# Altium schematic symbol library Tray2.SchLib: 80 symbols
Pins are listed as number, name and electrical type; pins without a type are passive.

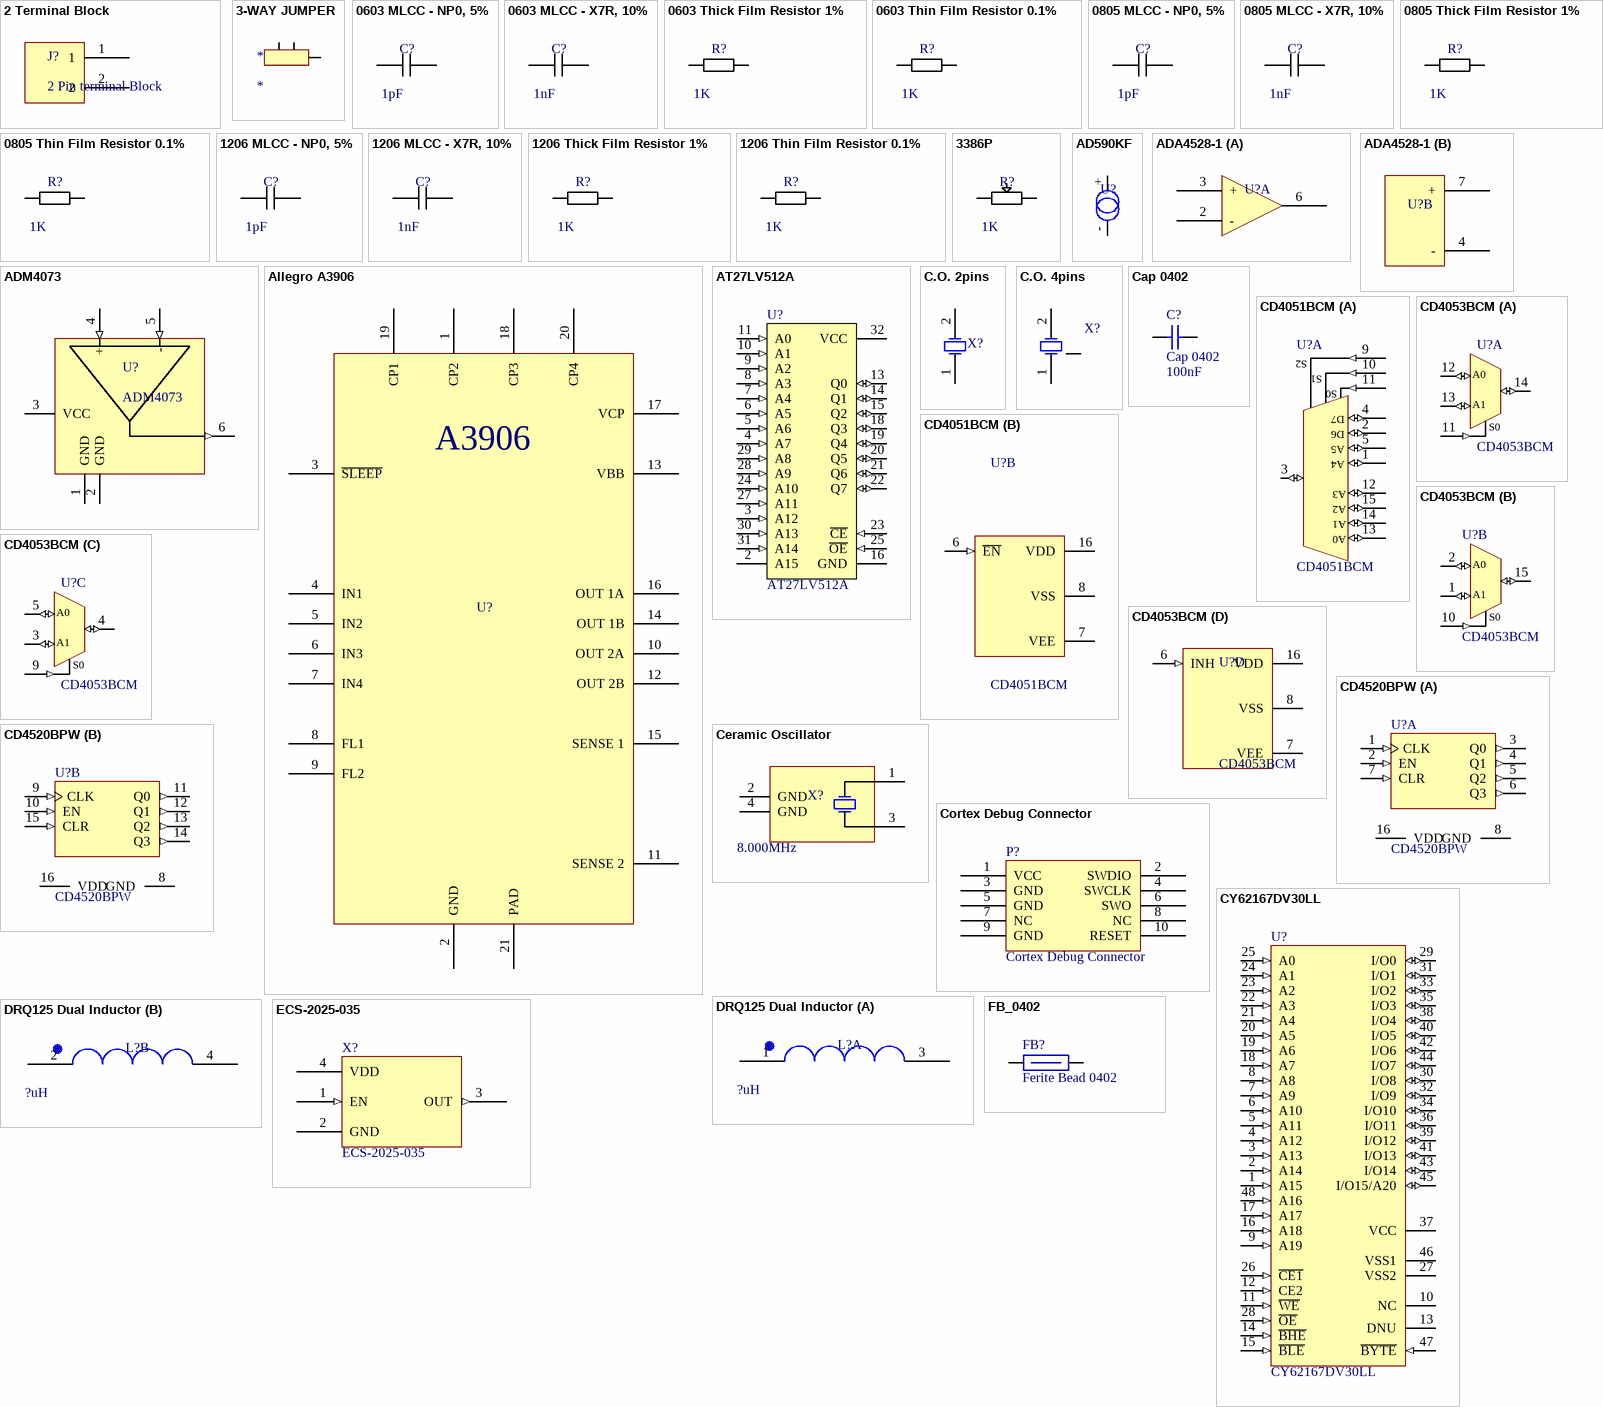
[diagram p0: symbols 2 Terminal Block to FB_0402]

## 2 Terminal Block
designator J?, comment 2 Pin terminal Block
footprint 5.05mm Terminal Block - 2
pins: 1, 2

## 3-WAY JUMPER
designator *
footprint BIDIRECTIONAL LED
pins: 1, 2, 3

## 0603 MLCC - NP0, 5%
designator C?, comment value 1pF  (hidden comment: 0603 Cap)
0603 MLCC - NP0, 5%
footprint 0603 Cap (0603 Capacitor)
pins: 1, 2

## 0603 MLCC - X7R, 10%
designator C?, comment value 1nF  (hidden comment: 0603 Cap)
0603 MLCC - X7R, 10%
footprint 0603 Cap (0603 Capacitor)
pins: 1, 2

## 0603 Thick Film Resistor 1%
designator R?, comment value 1K  (hidden comment: 0603 Resistor)
0603 Thick Film Resistor 1%
footprint 0603 Resistor
pins: 1, 2

## 0603 Thin Film Resistor 0.1%
designator R?, comment value 1K  (hidden comment: 0603 Resistor)
0603 Thin Film Resistor 0.1%
footprint 0603 Resistor
pins: 1, 2

## 0805 MLCC - NP0, 5%
designator C?, comment value 1pF  (hidden comment: 0805 Cap)
0805 MLCC - NP0, 5%
footprint 0805 Cap (0805 Capacitor)
pins: 1, 2

## 0805 MLCC - X7R, 10%
designator C?, comment value 1nF  (hidden comment: 0805 Cap)
0805 MLCC - X7R, 10%
footprint 0805 Cap (0805 Capacitor)
pins: 1, 2

## 0805 Thick Film Resistor 1%
designator R?, comment value 1K  (hidden comment: 0805 Resistor)
0805 Thick Film Resistor 1%
footprint 0805 Resistor
pins: 1, 2

## 0805 Thin Film Resistor 0.1%
designator R?, comment value 1K  (hidden comment: 0805 Resistor)
0805 Thin Film Resistor 0.1%
footprint 0805 Resistor
pins: 1, 2

## 1206 MLCC - NP0, 5%
designator C?, comment value 1pF  (hidden comment: 1206 Cap)
1206 MLCC - NP0, 5%
footprint 1206 Cap (1206 Capacitor)
pins: 1, 2

## 1206 MLCC - X7R, 10%
designator C?, comment value 1nF  (hidden comment: 1206 Cap)
1206 MLCC - X7R, 10%
footprint 1206 Cap (1206 Capacitor)
pins: 1, 2

## 1206 Thick Film Resistor 1%
designator R?, comment value 1K  (hidden comment: 1206 Resistor)
1206 Thick Film Resistor 1%
footprint 1206 Resistor
pins: 1, 2

## 1206 Thin Film Resistor 0.1%
designator R?, comment value 1K  (hidden comment: 1206 Resistor)
1206 Thin Film Resistor 0.1%
footprint 1206 Resistor
pins: 1, 2

## 3386P
designator R?  value 1K  (hidden comment: 3386P)
3386P Trim Pot
footprint 3386P (Trim Pot Bournes)
pins: 1, 2, 3

## AD590KF
designator U?  (value not drawn)
Temperature sensor IC
footprint 5.05mm Terminal Block - 2; pin to pad +>1 ->2
pins: +, -

## ADA4528-1
designator U?  (value not drawn)
Dual, High Performance Audio Operational Amplifier; ComponentLink1Description: Datasheet; ComponentLink1URL: http://www.national.com/ds/LM/LME49720.pdf
footprint SOIC8 - LME49720
part A pins: 2 -, 3 +, 6 Out
part B pins: 4 - (power), 7 + (power)

## ADM4073
designator U?
Current Sense Amplifer
footprint SOT95P285X145-6N (SOT23, 6-Leads, Body 3.0x3.0mm (max), Pitch 0.95mm, IPC Medium Density)
pins: 1 GND, 2 GND, 3 VCC, 4 + (in), 5 - (in), 6 (out)

## Allegro A3906
designator U?, comment A3906  (value not drawn)
A3906 Allegro Stepper controller; ComponentLink1Description: Datasheet; ComponentLink1URL: http://www.allegromicro.com/en/Products/Part_Numbers/3906/3906.pdf
footprint QFN20 - A3906 (QFN, 20-Leads, Body 4.2x4.2mm (max), Pitch 0.50mm, IPC Medium Density)
pins: 1 CP2, 2 GND, 3 ~{SLEEP}, 4 IN1, 5 IN2, 6 IN3, 7 IN4, 8 FL1, 9 FL2, 10 OUT 2A, 11 SENSE 2, 12 OUT 2B, 13 VBB, 14 OUT 1B, 15 SENSE 1, 16 OUT 1A, 17 VCP, 18 CP3, 19 CP1, 20 CP4, 21 PAD

## AT27LV512A
designator U?
512 Kbit (32Kb X 8) UV EPROM and OTP EPROM; Published: 24-Aug-2001; LatestRevisionDate: 06-Jun-2005; LatestRevisionNote: Stylized 3D Model Added.; DatasheetVersion: Jul-1998; PackageVersion: Jan-2003; PackageReference: PDIP28; Publisher: Altium Limited; PackageDescription: DIP; 28 Leads; Row Spacing 15.24 mm; Pitch 2.54 mm; ComponentLink1Description: Manufacturer Link; ComponentLink1URL: http://www.st.com/; ComponentLink2Description: Datasheet; ComponentLink2URL: http://www.st.com/stonline/products/literature/ds/2384/m27c256b.pdf; Supplier 1: Digi-Key; Supplier Part Number 1: AT27LV256A-70RC-ND
footprint PLCC7*9 (PLCC, 32-Leads, Body 15.1x15.1mm (max), Pitch 1.270mm, IPC Medium Density)
pins: 2 A15, 3 A12 (in), 4 A7 (in), 5 A6 (in), 6 A5 (in), 7 A4 (in), 8 A3 (in), 9 A2 (in), 10 A1 (in), 11 A0 (in), 13 Q0 (io), 14 Q1 (io), 15 Q2 (io), 16 GND (power), 18 Q3 (io), 19 Q4 (io), 20 Q5 (io), 21 Q6 (io), 22 Q7 (io), 23 ~{CE} (in), 24 A10 (in), 25 ~{OE} (in), 27 A11 (in), 28 A9 (in), 29 A8 (in), 30 A13 (in), 31 A14 (in), 32 VCC (power)

## C.O. 2pins
designator X?, comment Crystal Oscilator  (value not drawn)
Crystal Oscillator; Value: 12.000MHz; Published: 8-Jun-2000; LatestRevisionDate: 17-Jul-2002; LatestRevisionNote: Re-released for DXP Platform.; PackageReference: R38; Publisher: Altium Limited
simulation model XTAL (Spice Subcircuit)
footprint 9H T10
pins: 1 OSC1, 2 OSC2

## C.O. 4pins
designator X?, comment Crystal Oscilator  (value not drawn)
Crystal Oscillator; Value: 12.000MHz; Published: 8-Jun-2000; LatestRevisionDate: 17-Jul-2002; LatestRevisionNote: Re-released for DXP Platform.; PackageReference: R38; Publisher: Altium Limited
simulation model XTAL (Spice Subcircuit)
footprint 7M
pins: 1 OSC1, 2 OSC2, 3

## Cap 0402
designator C?  value 100nF
Capacitor; Published: 8-Jun-2000; LatestRevisionDate: 17-Jul-2002; LatestRevisionNote: Re-released for DXP Platform.; PackageReference: RAD-0.3; Publisher: Altium Limited; PackageDescription: Radial Cap, Thru-Hole; 2 Leads; 0.3 in Pin Spacing
simulation model CAP (Capacitor)
signal-integrity model Cap
footprint CAPC1005X06L (Chip Capacitor, 2-Leads, Body 1.0x0.5mm, IPC High Density)
pins: 1, 2

## CD4051BCM
designator U?
8-Channel Analog Multiplexer/Demultiplexer; Datasheet Link: http://focus.ti.com/lit/ds/symlink/cd4052b.pdf; Supplier 1: Farnell; Supplier Part Number 1: 1753421
footprint TSSOP16 (Thin Small Outline Package)
part A pins: 1 A4 (io), 2 A6 (io), 3 O (io), 4 A7 (io), 5 A5 (io), 9 S2 (in), 10 S1 (in), 11 S0 (in), 12 A3 (io), 13 A0 (io), 14 A1 (io), 15 A2 (io)
part B pins: 6 ~{EN} (in), 7 VEE (power), 8 VSS (power), 16 VDD (power)
part A text: D7; D6

## CD4053BCM
designator U?
Triple 2-Channnel Analog Multiplexer/Demutiplexer; Supplier 1: Farnell; Supplier Part Number 1: 2132284
footprint TSSOP16 (Thin Small Outline Package)
part A pins: 11 A (in), 12 A0 (io), 13 A1 (io), 14 A_out (io)
part B pins: 1 by (io), 2 bx (io), 10 B (in), 15 b_out (io)
part C pins: 3 cy (io), 4 c_out (io), 5 cx (io), 9 C (in)
part D pins: 6 INH (in), 7 VEE (power), 8 VSS (power), 16 VDD (power)
part A text: S0
part B text: S0
part C text: S0

## CD4520BPW
designator U?
Dual Binary Up-Counter; Supplier 1: Farnell; Supplier Part Number 1: 1752815
footprint TSSOP16 (Thin Small Outline Package)
pins on every part: 8 GND (power), 16 VDD (power)
part A pins: 1 CLK (in), 2 EN (in), 3 Q0 (out), 4 Q1 (out), 5 Q2 (out), 6 Q3 (out), 7 CLR (in)
part B pins: 9 CLK (in), 10 EN (in), 11 Q0 (out), 12 Q1 (out), 13 Q2 (out), 14 Q3 (out), 15 CLR (in)

## Ceramic Oscillator
designator X?  Frequency: 8.000MHz  (hidden comment: *)
footprint Crystal Oscillator 5x7mm
pins: 1 OSC1, 2 GND, 3 OSC2, 4 GND

## Cortex Debug Connector
designator P?
Mates with FFSD-05-D-12.00-01-N
footprint FTSH-105-01-L-DV-TR (http://www.samtec.com/ftppub/cpdf/FTSHMKT1.PDF)
pins: 1 VCC, 2 SWDIO, 3 GND, 4 SWCLK, 5 GND, 6 SWO, 7 NC, 8 NC, 9 GND, 10 RESET

## CY62167DV30LL
designator U?
16-Mbit (1M x 16) Static RAM; ColumnAddress: A0-A9; Publisher: Altium Limited; ComponentLink1Description: Manufacturer Link; ComponentLink2Description: Datasheet
footprint TSSOP50P2000X120-48L (TSSOP, 48-Leads, Body 12.0x18.4mm (max), Pitch 0.50mm, IPC High Density)
pins: 1 A15 (in) "System clock; Active on the positive going edge.", 2 A14 (in) "Bank select address", 3 A13 (in) "Bank select address", 4 A12 (in) "Row/column addresses are multiplexed on the same pins.", 5 A11 (in) "Row/column addresses are multiplexed on the same pins.", 6 A10 (in) "Row/column addresses are multiplexed on the same pins.", 7 A9 (in) "Row/column addresses are multiplexed on the same pins.", 8 A8 (in) "Row/column addresses are multiplexed on the same pins.", 9 A19 (in) "No connection/reserved for future use.", 10 NC "No connection/reserved for future use.", 11 ~{WE} (in) "Write enable; Enables write operation and row precharge.", 12 CE2 (in) "Clock enable; Masks system clock to freeze operation from the next clock cycle.", 13 DNU "No connection/reserved for future use.", 14 ~{BHE} (in) "Column address strobe; Latches column addresses on the positive going edge of the CLK with CAS low.", 15 ~{BLE} (in) "Row address strobe; Latches row addresses on the positive going edge of the CLK with RAS low.", 16 A18 (in) "No connection/reserved for future use.", 17 A17 (in) "No connection/reserved for future use.", 18 A7 (in) "Row/column addresses are multiplexed on the same pins.", 19 A6 (in) "Row/column addresses are multiplexed on the same pins.", 20 A5 (in) "Row/column addresses are multiplexed on the same pins.", 21 A4 (in) "Row/column addresses are multiplexed on the same pins.", 22 A3 (in) "Row/column addresses are multiplexed on the same pins.", 23 A2 (in) "Row/column addresses are multiplexed on the same pins.", 24 A1 (in) "Row/column addresses are multiplexed on the same pins.", 25 A0 (in) "Row/column addresses are multiplexed on the same pins.", 26 ~{CE1} (in) "Chip select; Disables or enables device operation.", 27 VSS2 (power) "Ground for the input buffers and the core logic.", 28 ~{OE} (in) "System clock; Active on the positive going edge.", 29 I/O0 (io) "Data inputs/outputs are multiplexed on the same pins.", 30 I/O8 (io) "Data inputs/outputs are multiplexed on the same pins.", 31 I/O1 (io) "Data inputs/outputs are multiplexed on the same pins.", 32 I/O9 (io) "Data inputs/outputs are multiplexed on the same pins.", 33 I/O2 (io) "Data inputs/outputs are multiplexed on the same pins.", 34 I/O10 (io) "Data inputs/outputs are multiplexed on the same pins.", 35 I/O3 (io) "Data inputs/outputs are multiplexed on the same pins.", 36 I/O11 (io) "Data inputs/outputs are multiplexed on the same pins.", 37 VCC (power) "Power for the input buffers and the core logic.", 38 I/O4 (io) "Data inputs/outputs are multiplexed on the same pins.", 39 I/O12 (io) "Data inputs/outputs are multiplexed on the same pins.", 40 I/O5 (io) "Data inputs/outputs are multiplexed on the same pins.", 41 I/O13 (io) "Data inputs/outputs are multiplexed on the same pins.", 42 I/O6 (io) "Data inputs/outputs are multiplexed on the same pins.", 43 I/O14 (io) "Data inputs/outputs are multiplexed on the same pins.", 44 I/O7 (io) "Data inputs/outputs are multiplexed on the same pins.", 45 I/O15/A20 (io) "Data inputs/outputs are multiplexed on the same pins.", 46 VSS1 (power) "Ground for the input buffers and the core logic.", 47 ~{BYTE} (in) "Column address strobe; Latches column addresses on the positive going edge of the CLK with CAS low.", 48 A16 (in) "Clock enable; Masks system clock to freeze operation from the next clock cycle."

## DRQ125 Dual Inductor
designator L?  value ?uH  (hidden comment: *)
footprint DRQ125
part A pins: 1 17, 3 18
part B pins: 2 17, 4 18

## ECS-2025-035
designator X?
SMD Clock Oscillator, 3.579545MHz
footprint ECS-2025 (SMD Clock Oscillator)
pins: 1 EN (in), 2 GND (power), 3 OUT (out), 4 VDD (power)

## FB_0402
designator FB?, comment Ferite Bead 0402
Ferite Bead : 0402; Published: 8-Jun-2000; LatestRevisionDate: 29-May-2009; LatestRevisionNote: IPC-7351 Footprint Added.; PackageReference: J1-0603; Publisher: Altium Limited; PackageDescription: Chip Resistor
simulation model RESISTOR (Resistor)
footprint INDC1005X06L (Chip Inductor, 2-Leads, Body 1.0x0.5mm, IPC High Density)
pins: 1, 2

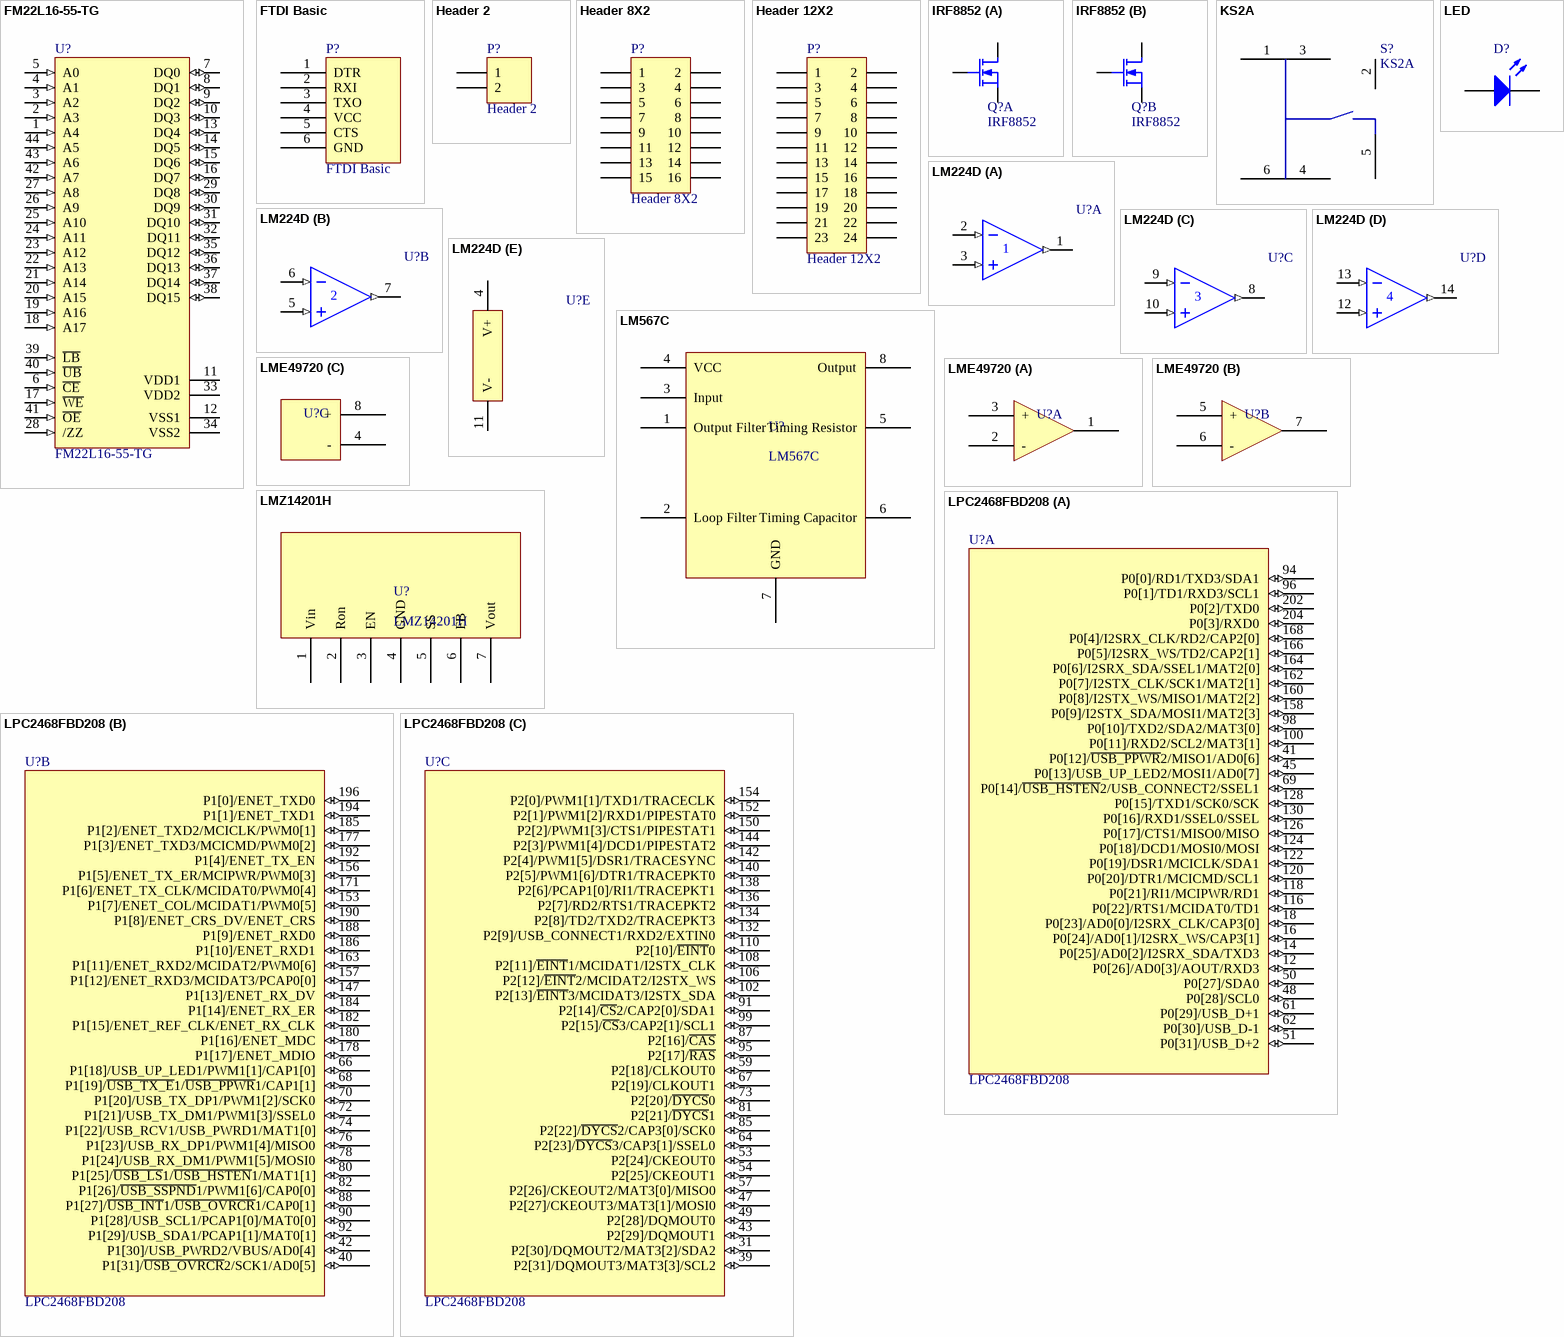
[diagram p1: symbols FM22L16-55-TG to LPC2468FBD208]

## FM22L16-55-TG
designator U?
FRAM, 2MB, 3V, 60NS, 44TSOP2; ColumnAddress: A0-A9; LatestRevisionDate: 13-Apr-2006; DatasheetVersion: rev1.1, Feb-2004; PackageReference: TSOP2-44_M; PackageDescription: 44-Pin Small Outline Package 0.8 mm Pitch; ComponentLink1Description: Manufacturer Link; ComponentLink2Description: Datasheet
footprint TSOP80P1180X120-44L (TSOP, 44-Leads, Body 18.4x10.2mm (max), Pitch 0.80mm, IPC High Density)
pins: 1 A4 (in) "Row/column addresses are multiplexed on the same pins.", 2 A3 (in) "Row/column addresses are multiplexed on the same pins.", 3 A2 (in) "Row/column addresses are multiplexed on the same pins.", 4 A1 (in) "Row/column addresses are multiplexed on the same pins.", 5 A0 (in) "Row/column addresses are multiplexed on the same pins.", 6 ~{CE} (in) "Chip select; Disables or enables device operation.", 7 DQ0 (io) "Data inputs/outputs are multiplexed on the same pins.", 8 DQ1 (io) "Data inputs/outputs are multiplexed on the same pins.", 9 DQ2 (io) "Data inputs/outputs are multiplexed on the same pins.", 10 DQ3 (io) "Data inputs/outputs are multiplexed on the same pins.", 11 VDD1 (power) "Power for the input buffers and the core logic.", 12 VSS1 (power) "Ground for the input buffers and the core logic.", 13 DQ4 (io) "Data inputs/outputs are multiplexed on the same pins.", 14 DQ5 (io) "Data inputs/outputs are multiplexed on the same pins.", 15 DQ6 (io) "Data inputs/outputs are multiplexed on the same pins.", 16 DQ7 (io) "Data inputs/outputs are multiplexed on the same pins.", 17 ~{WE} (in) "Write enable; Enables write operation and row precharge.", 18 A17 (in) "No connection/reserved for future use.", 19 A16 (in) "Clock enable; Masks system clock to freeze operation from the next clock cycle.", 20 A15 (in) "System clock; Active on the positive going edge.", 21 A14 (in) "Bank select address", 22 A13 (in) "Bank select address", 23 A12 (in) "Row/column addresses are multiplexed on the same pins.", 24 A11 (in) "Row/column addresses are multiplexed on the same pins.", 25 A10 (in) "Row/column addresses are multiplexed on the same pins.", 26 A9 (in) "Row/column addresses are multiplexed on the same pins.", 27 A8 (in) "Row/column addresses are multiplexed on the same pins.", 28 /ZZ (in) "Row address strobe; Latches row addresses on the positive going edge of the CLK with RAS low.", 29 DQ8 (io) "Data inputs/outputs are multiplexed on the same pins.", 30 DQ9 (io) "Data inputs/outputs are multiplexed on the same pins.", 31 DQ10 (io) "Data inputs/outputs are multiplexed on the same pins.", 32 DQ11 (io) "Data inputs/outputs are multiplexed on the same pins.", 33 VDD2 (power) "Power for the input buffers and the core logic.", 34 VSS2 (power) "Ground for the input buffers and the core logic.", 35 DQ12 (io) "Data inputs/outputs are multiplexed on the same pins.", 36 DQ13 (io) "Data inputs/outputs are multiplexed on the same pins.", 37 DQ14 (io) "Data inputs/outputs are multiplexed on the same pins.", 38 DQ15 (io) "Data inputs/outputs are multiplexed on the same pins.", 39 ~{LB} (in) "Data input/output mask for DQ0-DQ7", 40 ~{UB} (in) "Data input/output mask for DQ8-DQ15", 41 ~{OE} (in) "Column address strobe; Latches column addresses on the positive going edge of the CLK with CAS low.", 42 A7 (in) "Row/column addresses are multiplexed on the same pins.", 43 A6 (in) "Row/column addresses are multiplexed on the same pins.", 44 A5 (in) "Row/column addresses are multiplexed on the same pins."

## FTDI Basic
designator P?
footprint FTDI BASIC
pins: 1 DTR, 2 RXI, 3 TXO, 4 VCC, 5 CTS, 6 GND

## Header 2
designator P?
Header, 2-Pin; LatestRevisionDate: 17-Jul-2002; LatestRevisionNote: Re-released for DXP Platform.; Publisher: Altium Limited
footprint HDR1X2 (Connector; Header; 2 Position)
signal-integrity model Connector
pins: 1, 2

## Header 8X2
designator P?
Header, 8-Pin, Dual row; LatestRevisionDate: 17-Jul-2002; LatestRevisionNote: Re-released for DXP Platform.; Publisher: Altium Limited
footprint HDR2X8 (Connector; Header; 8x2 Position)
signal-integrity model Connector
pins: 1, 2, 3, 4, 5, 6, 7, 8, 9, 10, 11, 12, 13, 14, 15, 16

## Header 12X2
designator P?
Header, 12-Pin, Dual row; LatestRevisionDate: 17-Jul-2002; LatestRevisionNote: Re-released for DXP Platform.; Publisher: Altium Limited
footprint HDR2X12 (Connector; Header; 12x2 Position)
signal-integrity model Connector
pins: 1, 2, 3, 4, 5, 6, 7, 8, 9, 10, 11, 12, 13, 14, 15, 16, 17, 18, 19, 20, 21, 22, 23, 24

## IRF8852
designator Q?
N-Channel MOSFET; Published: 8-Jun-2000; LatestRevisionDate: 17-Jul-2002; LatestRevisionNote: Re-released for DXP Platform.; PackageVersion: 1995/1996; PackageReference: E3; Publisher: Altium Limited; PackageDescription: TO, Flat Index; 3 In-Line, Axial Leads; Body Dia. 4.6mm; Lead Dia. 0.5 mm (max)
footprint TSSOP8
part A pins: D1 D, G1 G, S1 S
part B pins: D2 D, G2 G, S2 S

## KS2A
designator S?
Tact Switch
footprint K5A2
pins: 1 (power), 2 (power), 3 (power), 4 (power), 5, 6 (power)

## LED
designator D?, comment LED - ASMT-Rx45  (value not drawn)
Typical INFRARED GaAs LED 0603; Published: 8-Jun-2000; LatestRevisionDate: 08-Jul-2005; LatestRevisionNote: Mech Layer 1 removed.; PackageReference: LED-0; Publisher: Altium Limited; PackageDescription: LED; 2 Leads
simulation model LED0 (Diode)
footprint ASMT-Rx45
pins: 1 A, 2 K

## LM224D
designator U?
Quadruple Operational Amplifier; Published: 15-Apr-2002; LatestRevisionDate: 13-Apr-2006; LatestRevisionNote: IPC-7351 Footprint Added.; DatasheetVersion: Jan-1989; PackageVersion: Jan-1998; PackageReference: D014; Publisher: Altium Limited; PackageDescription: 14-Pin Small Outline Integrated Circuit 1.27 mm Pitch; Code_IPC: SOIC127P600-14; ComponentLink1Description: Manufacturer Link; ComponentLink1URL: http://www.ti.com/; ComponentLink2Description: Datasheet; ComponentLink2URL: http://www-s.ti.com/sc/ds/lm224.pdf
footprint D014_N (SOIC, 14-Leads, Body 8.7x3.9mm, Pitch 1.27mm, IPC Medium Density)
part A pins: 1 OUT (out), 2 IN- (in), 3 IN+ (in)
part B pins: 5 IN+ (in), 6 IN- (in), 7 OUT (out)
part C pins: 8 OUT (out), 9 IN- (in), 10 IN+ (in)
part D pins: 12 IN+ (in), 13 IN- (in), 14 OUT (out)
part E pins: 4 V+ (power), 11 V- (power)

## LM567C
designator U?
Tone Decoder; ComponentLink1URL: http://www.national.com/mpf/LM/LM567C.html; ComponentLink1Description: Component Information
footprint SOIC8 - LM567CM (SOIC, 8-Leads, Body 5.0x4.0mm (max), Pitch 1.27mm, IPC Medium Density)
pins: 1 Output Filter, 2 Loop Filter, 3 Input, 4 VCC (power), 5 Timing Resistor, 6 Timing Capacitor, 7 GND (power), 8 Output

## LME49720
designator U?  (value not drawn)
Dual, High Performance Audio Operational Amplifier; ComponentLink1Description: Datasheet; ComponentLink1URL: http://www.national.com/ds/LM/LME49720.pdf
footprint SOIC8 - LME49720
part A pins: 1 Out, 2 -, 3 +
part B pins: 5 +, 6 -, 7 Out
part C pins: 4 - (power), 8 + (power)

## LMZ14201H
designator U?
1A SIMPLE SWITCHER® Power Module for High Output  Voltage
footprint TO-PMOD-7
pins: 1 Vin, 2 Ron, 3 EN, 4 GND, 5 SS, 6 FB, 7 Vout

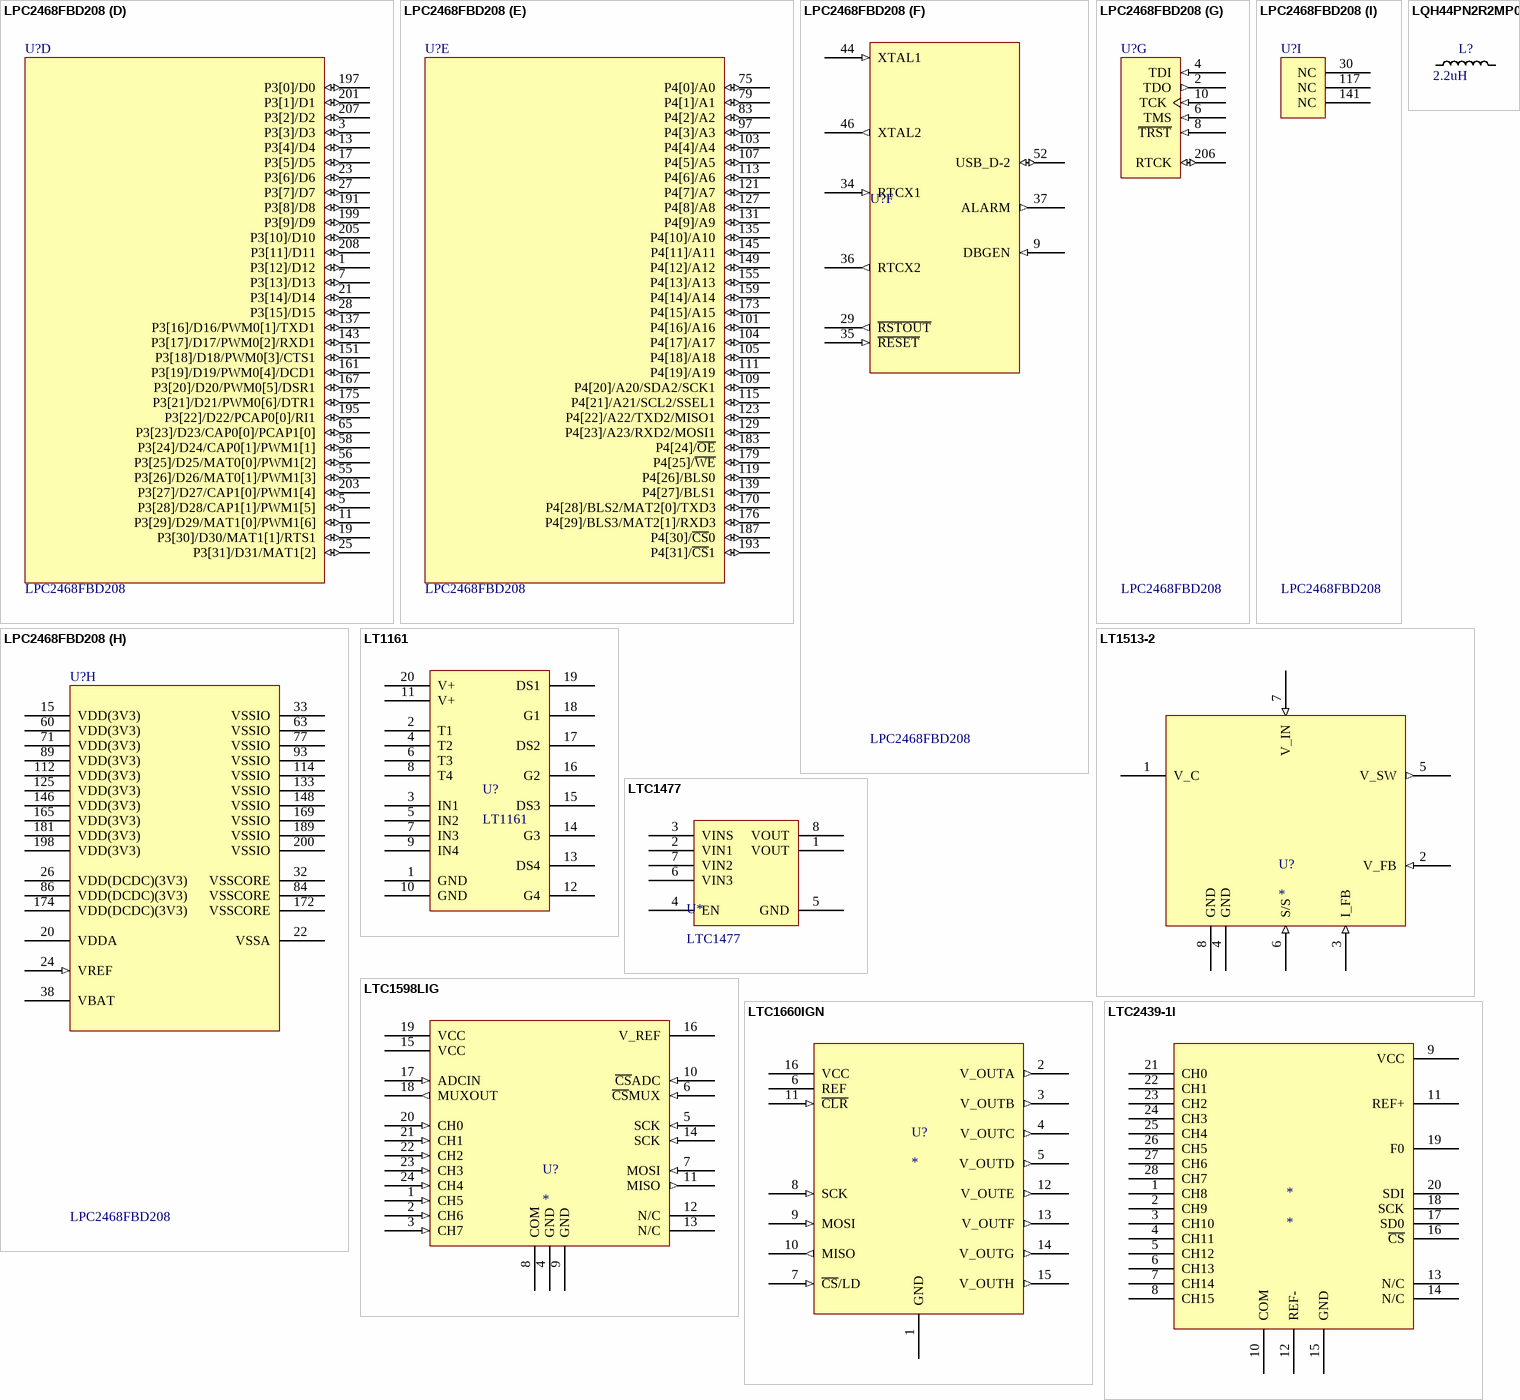
[diagram p2: symbols LPC2468FBD208 to LTC2439-1l]

## LPC2468FBD208
designator U?
ARM7 16/32-Bit Microcontroller, 512KB Flash, 98KB RAM, 208-Lead LQFP; Code_IEC: 136E30; Published: 17-Aug-2007; DatasheetVersion: rev.01, Jul-2007; PackageVersion: Feb-2003; PackageReference: SOT459-1; Publisher: Altium Limited; PackageDescription: 208-Pin Plastic Low Profile Quad Flat Pack, LQFP208; Code_JEDEC: MS-026; ComponentLink1Description: Manufacturer Link; ComponentLink1URL: http://www.nxp.com/; ComponentLink2Description: Datasheet; ComponentLink2URL: http://www.standardics.nxp.com/products/lpc2000/datasheet/lpc2468.pdf
footprint TSQFP50P3000X3000X160-208L (TSQFP, 208-Leads, Body 30.1x30.1mm (max), Pitch 0.50mm, IPC High Density)
part A pins: 12 P0[26]/AD0[3]/AOUT/RXD3 (io), 14 P0[25]/AD0[2]/I2SRX_SDA/TXD3 (io), 16 P0[24]/AD0[1]/I2SRX_WS/CAP3[1] (io), 18 P0[23]/AD0[0]/I2SRX_CLK/CAP3[0] (io), 41 P0[12]/~{USB_PPWR}2/MISO1/AD0[6] (io), 45 P0[13]/USB_UP_LED2/MOSI1/AD0[7] (io), 48 P0[28]/SCL0 (io), 50 P0[27]/SDA0 (io), 51 P0[31]/USB_D+2 (io), 61 P0[29]/USB_D+1 (io), 62 P0[30]/USB_D-1 (io), 69 P0[14]/~{USB_HSTEN}2/USB_CONNECT2/SSEL1 (io), 94 P0[0]/RD1/TXD3/SDA1 (io), 96 P0[1]/TD1/RXD3/SCL1 (io), 98 P0[10]/TXD2/SDA2/MAT3[0] (io), 100 P0[11]/RXD2/SCL2/MAT3[1] (io), 116 P0[22]/RTS1/MCIDAT0/TD1 (io), 118 P0[21]/RI1/MCIPWR/RD1 (io), 120 P0[20]/DTR1/MCICMD/SCL1 (io), 122 P0[19]/DSR1/MCICLK/SDA1 (io), 124 P0[18]/DCD1/MOSI0/MOSI (io), 126 P0[17]/CTS1/MISO0/MISO (io), 128 P0[15]/TXD1/SCK0/SCK (io), 130 P0[16]/RXD1/SSEL0/SSEL (io), 158 P0[9]/I2STX_SDA/MOSI1/MAT2[3] (io), 160 P0[8]/I2STX_WS/MISO1/MAT2[2] (io), 162 P0[7]/I2STX_CLK/SCK1/MAT2[1] (io), 164 P0[6]/I2SRX_SDA/SSEL1/MAT2[0] (io), 166 P0[5]/I2SRX_WS/TD2/CAP2[1] (io), 168 P0[4]/I2SRX_CLK/RD2/CAP2[0] (io), 202 P0[2]/TXD0 (io), 204 P0[3]/RXD0 (io)
part B pins: 40 P1[31]/~{USB_OVRCR}2/SCK1/AD0[5] (io), 42 P1[30]/USB_PWRD2/VBUS/AD0[4] (io), 66 P1[18]/USB_UP_LED1/PWM1[1]/CAP1[0] (io), 68 P1[19]/~{USB_TX_E}1/~{USB_PPWR}1/CAP1[1] (io), 70 P1[20]/USB_TX_DP1/PWM1[2]/SCK0 (io), 72 P1[21]/USB_TX_DM1/PWM1[3]/SSEL0 (io), 74 P1[22]/USB_RCV1/USB_PWRD1/MAT1[0] (io), 76 P1[23]/USB_RX_DP1/PWM1[4]/MISO0 (io), 78 P1[24]/USB_RX_DM1/PWM1[5]/MOSI0 (io), 80 P1[25]/~{USB_LS}1/~{USB_HSTEN}1/MAT1[1] (io), 82 P1[26]/~{USB_SSPND}1/PWM1[6]/CAP0[0] (io), 88 P1[27]/~{USB_INT}1/~{USB_OVRCR}1/CAP0[1] (io), 90 P1[28]/USB_SCL1/PCAP1[0]/MAT0[0] (io), 92 P1[29]/USB_SDA1/PCAP1[1]/MAT0[1] (io), 147 P1[13]/ENET_RX_DV (io), 153 P1[7]/ENET_COL/MCIDAT1/PWM0[5] (io), 156 P1[5]/ENET_TX_ER/MCIPWR/PWM0[3] (io), 157 P1[12]/ENET_RXD3/MCIDAT3/PCAP0[0] (io), 163 P1[11]/ENET_RXD2/MCIDAT2/PWM0[6] (io), 171 P1[6]/ENET_TX_CLK/MCIDAT0/PWM0[4] (io), 177 P1[3]/ENET_TXD3/MCICMD/PWM0[2] (io), 178 P1[17]/ENET_MDIO (io), 180 P1[16]/ENET_MDC (io), 182 P1[15]/ENET_REF_CLK/ENET_RX_CLK (io), 184 P1[14]/ENET_RX_ER (io), 185 P1[2]/ENET_TXD2/MCICLK/PWM0[1] (io), 186 P1[10]/ENET_RXD1 (io), 188 P1[9]/ENET_RXD0 (io), 190 P1[8]/ENET_CRS_DV/ENET_CRS (io), 192 P1[4]/ENET_TX_EN (io), 194 P1[1]/ENET_TXD1 (io), 196 P1[0]/ENET_TXD0 (io)
part C pins: 31 P2[30]/DQMOUT2/MAT3[2]/SDA2 (io), 39 P2[31]/DQMOUT3/MAT3[3]/SCL2 (io), 43 P2[29]/DQMOUT1 (io), 47 P2[27]/CKEOUT3/MAT3[1]/MOSI0 (io), 49 P2[28]/DQMOUT0 (io), 53 P2[24]/CKEOUT0 (io), 54 P2[25]/CKEOUT1 (io), 57 P2[26]/CKEOUT2/MAT3[0]/MISO0 (io), 59 P2[18]/CLKOUT0 (io), 64 P2[23]/~{DYCS}3/CAP3[1]/SSEL0 (io), 67 P2[19]/CLKOUT1 (io), 73 P2[20]/~{DYCS}0 (io), 81 P2[21]/~{DYCS}1 (io), 85 P2[22]/~{DYCS}2/CAP3[0]/SCK0 (io), 87 P2[16]/~{CAS} (io), 91 P2[14]/~{CS}2/CAP2[0]/SDA1 (io), 95 P2[17]/~{RAS} (io), 99 P2[15]/~{CS}3/CAP2[1]/SCL1 (io), 102 P2[13]/~{EINT}3/MCIDAT3/I2STX_SDA (io), 106 P2[12]/~{EINT}2/MCIDAT2/I2STX_WS (io), 108 P2[11]/~{EINT}1/MCIDAT1/I2STX_CLK (io), 110 P2[10]/~{EINT}0 (io), 132 P2[9]/USB_CONNECT1/RXD2/EXTIN0 (io), 134 P2[8]/TD2/TXD2/TRACEPKT3 (io), 136 P2[7]/RD2/RTS1/TRACEPKT2 (io), 138 P2[6]/PCAP1[0]/RI1/TRACEPKT1 (io), 140 P2[5]/PWM1[6]/DTR1/TRACEPKT0 (io), 142 P2[4]/PWM1[5]/DSR1/TRACESYNC (io), 144 P2[3]/PWM1[4]/DCD1/PIPESTAT2 (io), 150 P2[2]/PWM1[3]/CTS1/PIPESTAT1 (io), 152 P2[1]/PWM1[2]/RXD1/PIPESTAT0 (io), 154 P2[0]/PWM1[1]/TXD1/TRACECLK (io)
part D pins: 1 P3[12]/D12 (io), 3 P3[3]/D3 (io), 5 P3[28]/D28/CAP1[1]/PWM1[5] (io), 7 P3[13]/D13 (io), 11 P3[29]/D29/MAT1[0]/PWM1[6] (io), 13 P3[4]/D4 (io), 17 P3[5]/D5 (io), 19 P3[30]/D30/MAT1[1]/RTS1 (io), 21 P3[14]/D14 (io), 23 P3[6]/D6 (io), 25 P3[31]/D31/MAT1[2] (io), 27 P3[7]/D7 (io), 28 P3[15]/D15 (io), 55 P3[26]/D26/MAT0[1]/PWM1[3] (io), 56 P3[25]/D25/MAT0[0]/PWM1[2] (io), 58 P3[24]/D24/CAP0[1]/PWM1[1] (io), 65 P3[23]/D23/CAP0[0]/PCAP1[0] (io), 137 P3[16]/D16/PWM0[1]/TXD1 (io), 143 P3[17]/D17/PWM0[2]/RXD1 (io), 151 P3[18]/D18/PWM0[3]/CTS1 (io), 161 P3[19]/D19/PWM0[4]/DCD1 (io), 167 P3[20]/D20/PWM0[5]/DSR1 (io), 175 P3[21]/D21/PWM0[6]/DTR1 (io), 191 P3[8]/D8 (io), 195 P3[22]/D22/PCAP0[0]/RI1 (io), 197 P3[0]/D0 (io), 199 P3[9]/D9 (io), 201 P3[1]/D1 (io), 203 P3[27]/D27/CAP1[0]/PWM1[4] (io), 205 P3[10]/D10 (io), 207 P3[2]/D2 (io), 208 P3[11]/D11 (io)
part E pins: 75 P4[0]/A0 (io), 79 P4[1]/A1 (io), 83 P4[2]/A2 (io), 97 P4[3]/A3 (io), 101 P4[16]/A16 (io), 103 P4[4]/A4 (io), 104 P4[17]/A17 (io), 105 P4[18]/A18 (io), 107 P4[5]/A5 (io), 109 P4[20]/A20/SDA2/SCK1 (io), 111 P4[19]/A19 (io), 113 P4[6]/A6 (io), 115 P4[21]/A21/SCL2/SSEL1 (io), 119 P4[26]/BLS0 (io), 121 P4[7]/A7 (io), 123 P4[22]/A22/TXD2/MISO1 (io), 127 P4[8]/A8 (io), 129 P4[23]/A23/RXD2/MOSI1 (io), 131 P4[9]/A9 (io), 135 P4[10]/A10 (io), 139 P4[27]/BLS1 (io), 145 P4[11]/A11 (io), 149 P4[12]/A12 (io), 155 P4[13]/A13 (io), 159 P4[14]/A14 (io), 170 P4[28]/BLS2/MAT2[0]/TXD3 (io), 173 P4[15]/A15 (io), 176 P4[29]/BLS3/MAT2[1]/RXD3 (io), 179 P4[25]/~{WE} (io), 183 P4[24]/~{OE} (io), 187 P4[30]/~{CS}0 (io), 193 P4[31]/~{CS}1 (io)
part F pins: 9 DBGEN (in), 29 ~{RSTOUT} (out), 34 RTCX1 (in), 35 ~{RESET} (in), 36 RTCX2 (out), 37 ALARM (out), 44 XTAL1 (in), 46 XTAL2 (out), 52 USB_D-2 (io)
part G pins: 2 TDO (out), 4 TDI (in), 6 TMS (in), 8 ~{TRST} (in), 10 TCK (in), 206 RTCK (io)
part H pins: 15 VDD(3V3) (power), 20 VDDA (power), 22 VSSA (power), 24 VREF (in), 26 VDD(DCDC)(3V3) (power), 32 VSSCORE (power), 33 VSSIO (power), 38 VBAT (power), 60 VDD(3V3) (power), 63 VSSIO (power), 71 VDD(3V3) (power), 77 VSSIO (power), 84 VSSCORE (power), 86 VDD(DCDC)(3V3) (power), 89 VDD(3V3) (power), 93 VSSIO (power), 112 VDD(3V3) (power), 114 VSSIO (power), 125 VDD(3V3) (power), 133 VSSIO (power), 146 VDD(3V3) (power), 148 VSSIO (power), 165 VDD(3V3) (power), 169 VSSIO (power), 172 VSSCORE (power), 174 VDD(DCDC)(3V3) (power), 181 VDD(3V3) (power), 189 VSSIO (power), 198 VDD(3V3) (power), 200 VSSIO (power)
part I pins: 30 NC, 117 NC, 141 NC

## LQH44PN2R2MP0
designator L?  value 2.2uH  (hidden comment: LQH44PN2R2MP0)
Inductor 4x4mm 2.2uH; ComponentLink1Description: Datasheet; ComponentLink1URL: http://search.murata.co.jp/Ceramy/image/img/PDF/ENG/L0075S0103LQH44P.pdf
footprint INDP4037X16N (Precision Wire Wound Inductor, 2-Leads, Body 4.0x3.7mm, IPC Medium Density)
pins: 1, 2

## LT1161
designator U?
Quad Protected High-Side  MOSFET Driver
footprint SOIC20 (SOIC, 20-Leads, Body 13.0x7.6mm (max), Pitch 1.27mm, IPC Medium Density)
pins: 1 GND, 2 T1, 3 IN1, 4 T2, 5 IN2, 6 T3, 7 IN3, 8 T4, 9 IN4, 10 GND, 11 V+, 12 G4, 13 DS4, 14 G3, 15 DS3, 16 G2, 17 DS2, 18 G1, 19 DS1, 20 V+

## LT1513-2
designator U?
footprint TO152P1396X238-8N (D2-PAK, 8-Pads, Body 9.4x10.5mm (max), IPC Medium Density)
pins: 1 V_C, 2 V_FB (in), 3 I_FB (in), 4 GND, 5 V_SW (out), 6 S/S (in), 7 V_IN (in), 8 GND

## LTC1477
designator U*
Single Protected High Side Switches
footprint SO8
pins: 1 VOUT, 2 VIN1, 3 VINS, 4 EN, 5 GND, 6 VIN3, 7 VIN2, 8 VOUT

## LTC1598LIG
designator U?
footprint SOP65P780-24N (SOP, 24-Leads, Body 8.2x5.3mm, Pitch 0.65mm, IPC Medium Density)
pins: 1 CH5 (in), 2 CH6 (in), 3 CH7 (in), 4 GND, 5 SCK (in), 6 ~{CS}MUX (in), 7 MOSI (in), 8 COM, 9 GND, 10 ~{CS}ADC (in), 11 MISO (out), 12 N/C, 13 N/C, 14 SCK (in), 15 VCC, 16 V_REF, 17 ADCIN (in), 18 MUXOUT (out), 19 VCC, 20 CH0 (in), 21 CH1 (in), 22 CH2 (in), 23 CH3 (in), 24 CH4 (in)

## LTC1660IGN
designator U?
footprint SOP635P600-16N (SOP, 16-Leads, Body 4.9x3.9mm, Pitch 0.635mm, IPC Medium Density)
pins: 1 GND, 2 V_OUTA (out), 3 V_OUTB (out), 4 V_OUTC (out), 5 V_OUTD (out), 6 REF, 7 ~{CS}/LD (in), 8 SCK (in), 9 MOSI (in), 10 MISO (out), 11 ~{CLR} (in), 12 V_OUTE (out), 13 V_OUTF (out), 14 V_OUTG (out), 15 V_OUTH (out), 16 VCC

## LTC2439-1l
designator *
pins: 1 CH8, 2 CH9, 3 CH10, 4 CH11, 5 CH12, 6 CH13, 7 CH14, 8 CH15, 9 VCC, 10 COM, 11 REF+, 12 REF-, 13 N/C, 14 N/C, 15 GND, 16 ~{CS}, 17 SD0, 18 SCK, 19 F0, 20 SDI, 21 CH0, 22 CH1, 23 CH2, 24 CH3, 25 CH4, 26 CH5, 27 CH6, 28 CH7

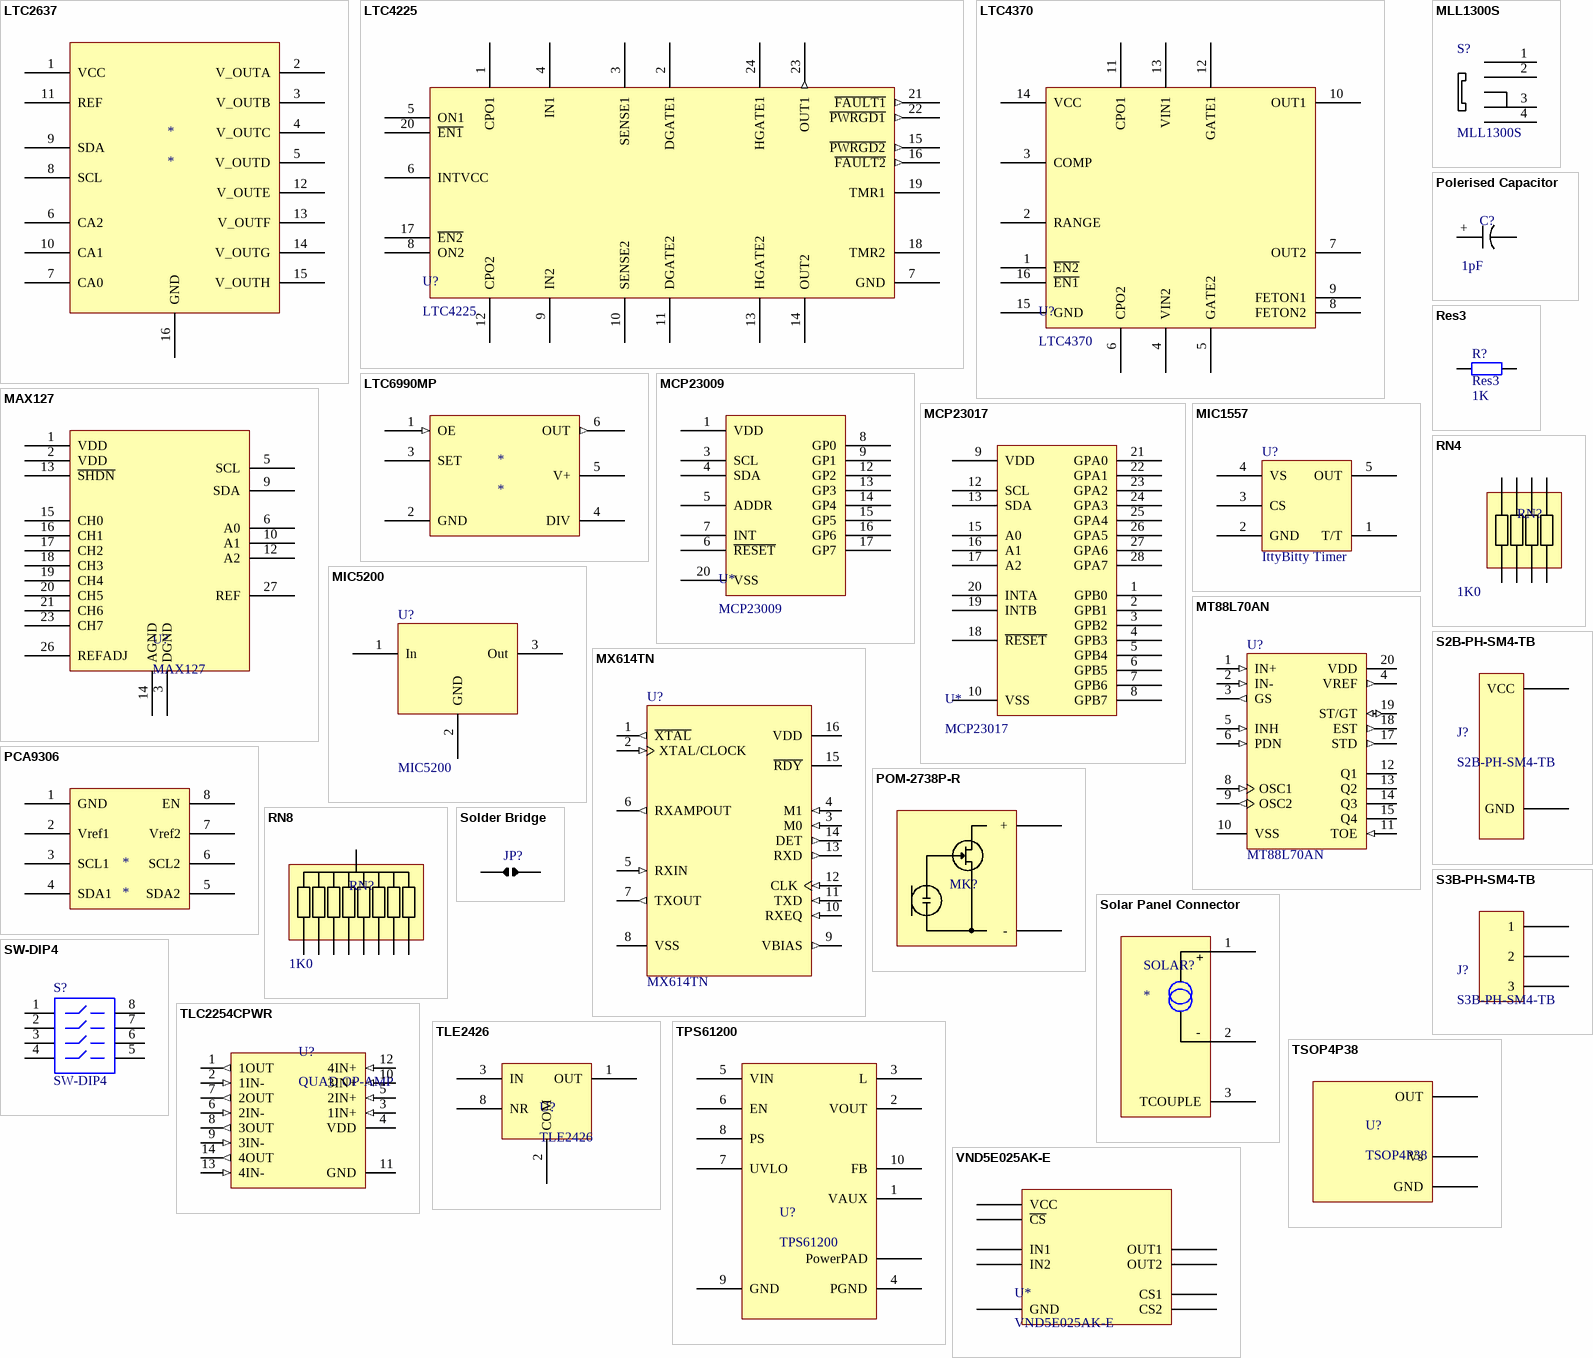
[diagram p3: symbols LTC2637 to VND5E025AK-E]

## LTC2637
designator *
footprint LTC2637
pins: 1 VCC, 2 V_OUTA, 3 V_OUTB, 4 V_OUTC, 5 V_OUTD, 6 CA2, 7 CA0, 8 SCL, 9 SDA, 10 CA1, 11 REF, 12 V_OUTE, 13 V_OUTF, 14 V_OUTG, 15 V_OUTH, 16 GND

## LTC4225
designator U?
Dual Ideal Diode and  Hot Swap Controller
footprint SSOP24
pins: 1 CPO1, 2 DGATE1, 3 SENSE1, 4 IN1, 5 ON1, 6 INTVCC, 7 GND, 8 ON2, 9 IN2, 10 SENSE2, 11 DGATE2, 12 CPO2, 13 HGATE2, 14 OUT2, 15 ~{PWRGD2} (out), 16 ~{FAULT2} (out), 17 ~{EN2}, 18 TMR2, 19 TMR1, 20 ~{EN1}, 21 ~{FAULT1} (out), 22 ~{PWRGD1} (out), 23 OUT1 (out), 24 HGATE1

## LTC4370
designator U?
Two-Supply Diode-OR Current Balancing Controller
footprint MSOP16 (TSSOP, 16-Leads, Body 4.1x3.1mm (max), Pitch 0.50mm, IPC Medium Density)
pins: 1 ~{EN2}, 2 RANGE, 3 COMP, 4 VIN2, 5 GATE2, 6 CPO2, 7 OUT2, 8 FETON2, 9 FETON1, 10 OUT1, 11 CPO1, 12 GATE1, 13 VIN1, 14 VCC, 15 GND, 16 ~{EN1}

## LTC6990MP
designator *
pins: 1 OE (in), 2 GND, 3 SET, 4 DIV, 5 V+, 6 OUT (out)

## MAX127
designator U?
8 Channel, 12 bit, I2C DAS
footprint SSOP28 - MAX127 (SOP, 28-Leads, Body 10.3x5.4mm (max), Pitch 0.65mm, IPC Medium Density)
pins: 1 VDD, 2 VDD, 3 DGND, 5 SCL, 6 A0, 9 SDA, 10 A1, 12 A2, 13 ~{SHDN}, 14 AGND, 15 CH0, 16 CH1, 17 CH2, 18 CH3, 19 CH4, 20 CH5, 21 CH6, 23 CH7, 26 REFADJ, 27 REF

## MCP23009
designator U*
8-Bit I/O Expander with Open-Drain Outputs
footprint SSOP20
pins: 1 VDD, 3 SCL, 4 SDA, 5 ADDR, 6 ~{RESET}, 7 INT, 8 GP0, 9 GP1, 12 GP2, 13 GP3, 14 GP4, 15 GP5, 16 GP6, 17 GP7, 20 VSS

## MCP23017
designator U*
16-Bit I/O Expander with Serial Interface
footprint SSOP28
pins: 1 GPB0, 2 GPB1, 3 GPB2, 4 GPB3, 5 GPB4, 6 GPB5, 7 GPB6, 8 GPB7, 9 VDD, 10 VSS, 12 SCL, 13 SDA, 15 A0, 16 A1, 17 A2, 18 ~{RESET}, 19 INTB, 20 INTA, 21 GPA0, 22 GPA1, 23 GPA2, 24 GPA3, 25 GPA4, 26 GPA5, 27 GPA6, 28 GPA7

## MIC1557
designator U?, comment IttyBitty Timer
Miniature Astable Timer Chip; Supplier: Farnell; Supplier Part Number: 1517241
footprint SOT23-5 (SOT23, 5-Leads, Body 3.0x3.0mm (max), Pitch 0.95mm, IPC Medium Density)
pins: 1 T/T, 2 GND, 3 CS, 4 VS, 5 OUT

## MIC5200
designator U?
footprint SOT230P710X170-4L (SOT223, 4-Leads, Body 6.7x7.5mm (max), Pitch 2.30mm, IPC High Density)
pins: 1 In (power), 2 GND (power), 3 Out (power)

## MLL1300S
designator S?
Slide switch SP3T switch
footprint MILL1300S
pins: 1, 2, 3, 4

## MT88L70AN
designator U?
3 Volt Integrated DTMF Receiver; Published: 8-Jun-2000; LatestRevisionDate: 13-Apr-2006; LatestRevisionNote: IPC-7351 Footprint Added.; DatasheetVersion: Issue 4 March 1997; PackageVersion: 1997; PackageReference: SOIC18; Publisher: Altium Limited; PackageDescription: 18-Pin Small Outline Integrated Circuit 1.27 mm Pitch; Code_JEDEC: MS-013-AB; ComponentLink1Description: Manufacturer Link; ComponentLink1URL: http://products.zarlink.com; ComponentLink2Description: Datasheet; ComponentLink2URL: http://assets.zarlink.com/DS/zarlink_MT88L70_MAY_05.pdf; Supplier 1: Allied; Supplier Part Number 1: 090-SPEC
footprint TSSOP20 (Thin Small Outline Package)
pins: 1 IN+ (in), 2 IN- (in), 3 GS (out), 4 VREF (out), 5 INH (in), 6 PDN (in), 8 OSC1 (in), 9 OSC2 (out), 10 VSS (power), 11 TOE (in), 12 Q1 (hiz), 13 Q2 (hiz), 14 Q3 (hiz), 15 Q4 (hiz), 17 STD (out), 18 EST (out), 19 ST/GT (io), 20 VDD (power)

## MX614TN
designator U?
Bell 202 Compatible Modem
footprint SOIC16 (SOIC, 16-Leads, Body 10.5x7.6mm (max), Pitch 1.27mm, IPC Medium Density)
pins: 1 ~{XTAL} (out), 2 XTAL/CLOCK (in), 3 M0 (in), 4 M1 (in), 5 RXIN (in), 6 RXAMPOUT (out), 7 TXOUT (out), 8 VSS (power), 9 VBIAS (out), 10 RXEQ (in), 11 TXD (in), 12 CLK (in), 13 RXD (out), 14 DET (out), 15 ~{RDY}, 16 VDD (power)

## PCA9306
designator *
footprint TSSOP50P310X90-8N (TSSOP, 8-Leads, Body 2.1x2.4mm (max), Pitch 0.50mm, IPC Medium Density)
pins: 1 GND, 2 Vref1, 3 SCL1, 4 SDA1, 5 SDA2, 6 SCL2, 7 Vref2, 8 EN

## Polerised Capacitor
designator C?, comment value 1pF  (hidden comment: Cap)
Polerised Capacitor
footprint 0603 Cap (0603 Capacitor)
pins: + 1, - 2

## POM-2738P-R
designator MK?  (value not drawn)
Electret Microphone Capsule
footprint POM-2738P-R
pins: 1 +, 2 -

## Res3
designator R?  value 1K
Resistor; Published: 8-Jun-2000; LatestRevisionDate: 29-May-2009; LatestRevisionNote: IPC-7351 Footprint Added.; PackageReference: J1-0603; Publisher: Altium Limited; PackageDescription: Chip Resistor
simulation model RESISTOR (Resistor)
footprint RESC1005X06L (Chip Resistor, 2-Leads, Body 1.0x0.5mm, IPC High Density)
pins: 1, 2

## RN4
designator RN?  value 1K0  (hidden comment: *)
footprint ACAS_0612_AC (Resistor network)
pins: 1, 2, 3, 4, 5, 6, 7, 8

## RN8
designator RN?  value 1K0  (hidden comment: *)
pins: 1, 1, 1, 1, 1, 1, 1, 1, 1

## S2B-PH-SM4-TB
designator J?
JST connector
footprint S2B-PH-SM4-TB
pins: 1 VCC, 2 GND

## S3B-PH-SM4-TB
designator J?
JST connector
footprint S3B-PH-SM4-TB
pins: 1, 2, 3

## Solar Panel Connector
designator SOLAR?
footprint 5.05mm Terminal Block - 3
pins: 1 PANEL+, 2 PANEL-, 3 TCOUPLE
text: +; -

## Solder Bridge
designator JP?, comment Jumper  (value not drawn)
Solder Bridge
footprint Solder Jumper A
footprint Solder Jumper B
footprint Solder Jumper C
footprint Solder Jumper D
footprint Solder Jumper E
pins: 1, 2

## SW-DIP4
designator S?
DIP Switch - 1571983-5; Published: 24-Mar-1999; LatestRevisionDate: 17-Jul-2002; LatestRevisionNote: Re-released for DXP Platform.; PackageReference: DIP-8; Publisher: Altium Limited
simulation model dpsw4 (Spice Subcircuit)
footprint DIP4
pins: 1, 2, 3, 4, 5, 6, 7, 8

## TLC2254CPWR
designator U?, comment QUAD OP-AMP
IC OPAMP QUAD 14-TSSOP
footprint TSOP65P640-14AN (TSOP, 14-Leads, Body 5x4.4mm, Pitch 0.65mm, IPC Medium Density)
pins: 1 1OUT (out), 2 1IN- (in), 3 1IN+ (in), 4 VDD, 5 2IN+ (in), 6 2IN- (in), 7 2OUT (out), 8 3OUT (out), 9 3IN- (in), 10 3IN+ (in), 11 GND, 12 4IN+ (in), 13 4IN- (in), 14 4OUT (out)

## TLE2426
designator U?
TLE2426 Precision Virtual Ground; ComponentLink1URL: http://www.ti.com/lit/ds/symlink/tle2426.pdf; ComponentLink1Description: Datasheet
footprint SOIC8 - TLE2426 (SOIC, 8-Leads, Body 5.0x4.0mm (max), Pitch 1.27mm, IPC Medium Density)
pins: 1 OUT, 2 COM, 3 IN, 8 NR

## TPS61200
designator U?
LOW INPUT VOLTAGE SYNCHRONOUS BOOST CONVERTER  WITH 1.3-A SWITCHES; ComponentLink1Description: Datasheet; ComponentLink1URL: http://www.ti.com/lit/ds/slvs577b/slvs577b.pdf
footprint QFN10 -TPS61200 (QFN, 14-Leads, Body 3.1x3.1mm (max), Pitch 0.50mm, IPC Medium Density)
pins: 0 PowerPAD, 1 VAUX, 2 VOUT, 3 L, 4 PGND, 5 VIN, 6 EN, 7 UVLO, 8 PS, 9 GND, 10 FB

## TSOP4P38
designator U?
IR Reciever IC
footprint TSOP4P38
pins: 1 OUT, 2 GND, 3 Vs

## VND5E025AK-E
designator U*
Double channel high-side driver with analog current sense
footprint SSO24
pins: CS1, CS2, CS_DIS ~{CS}, GND, IN1, IN2, OUT1, OUT2, VCC